# EAGLE library part ALLWINNER-A13 (library WakamelibGOOD)
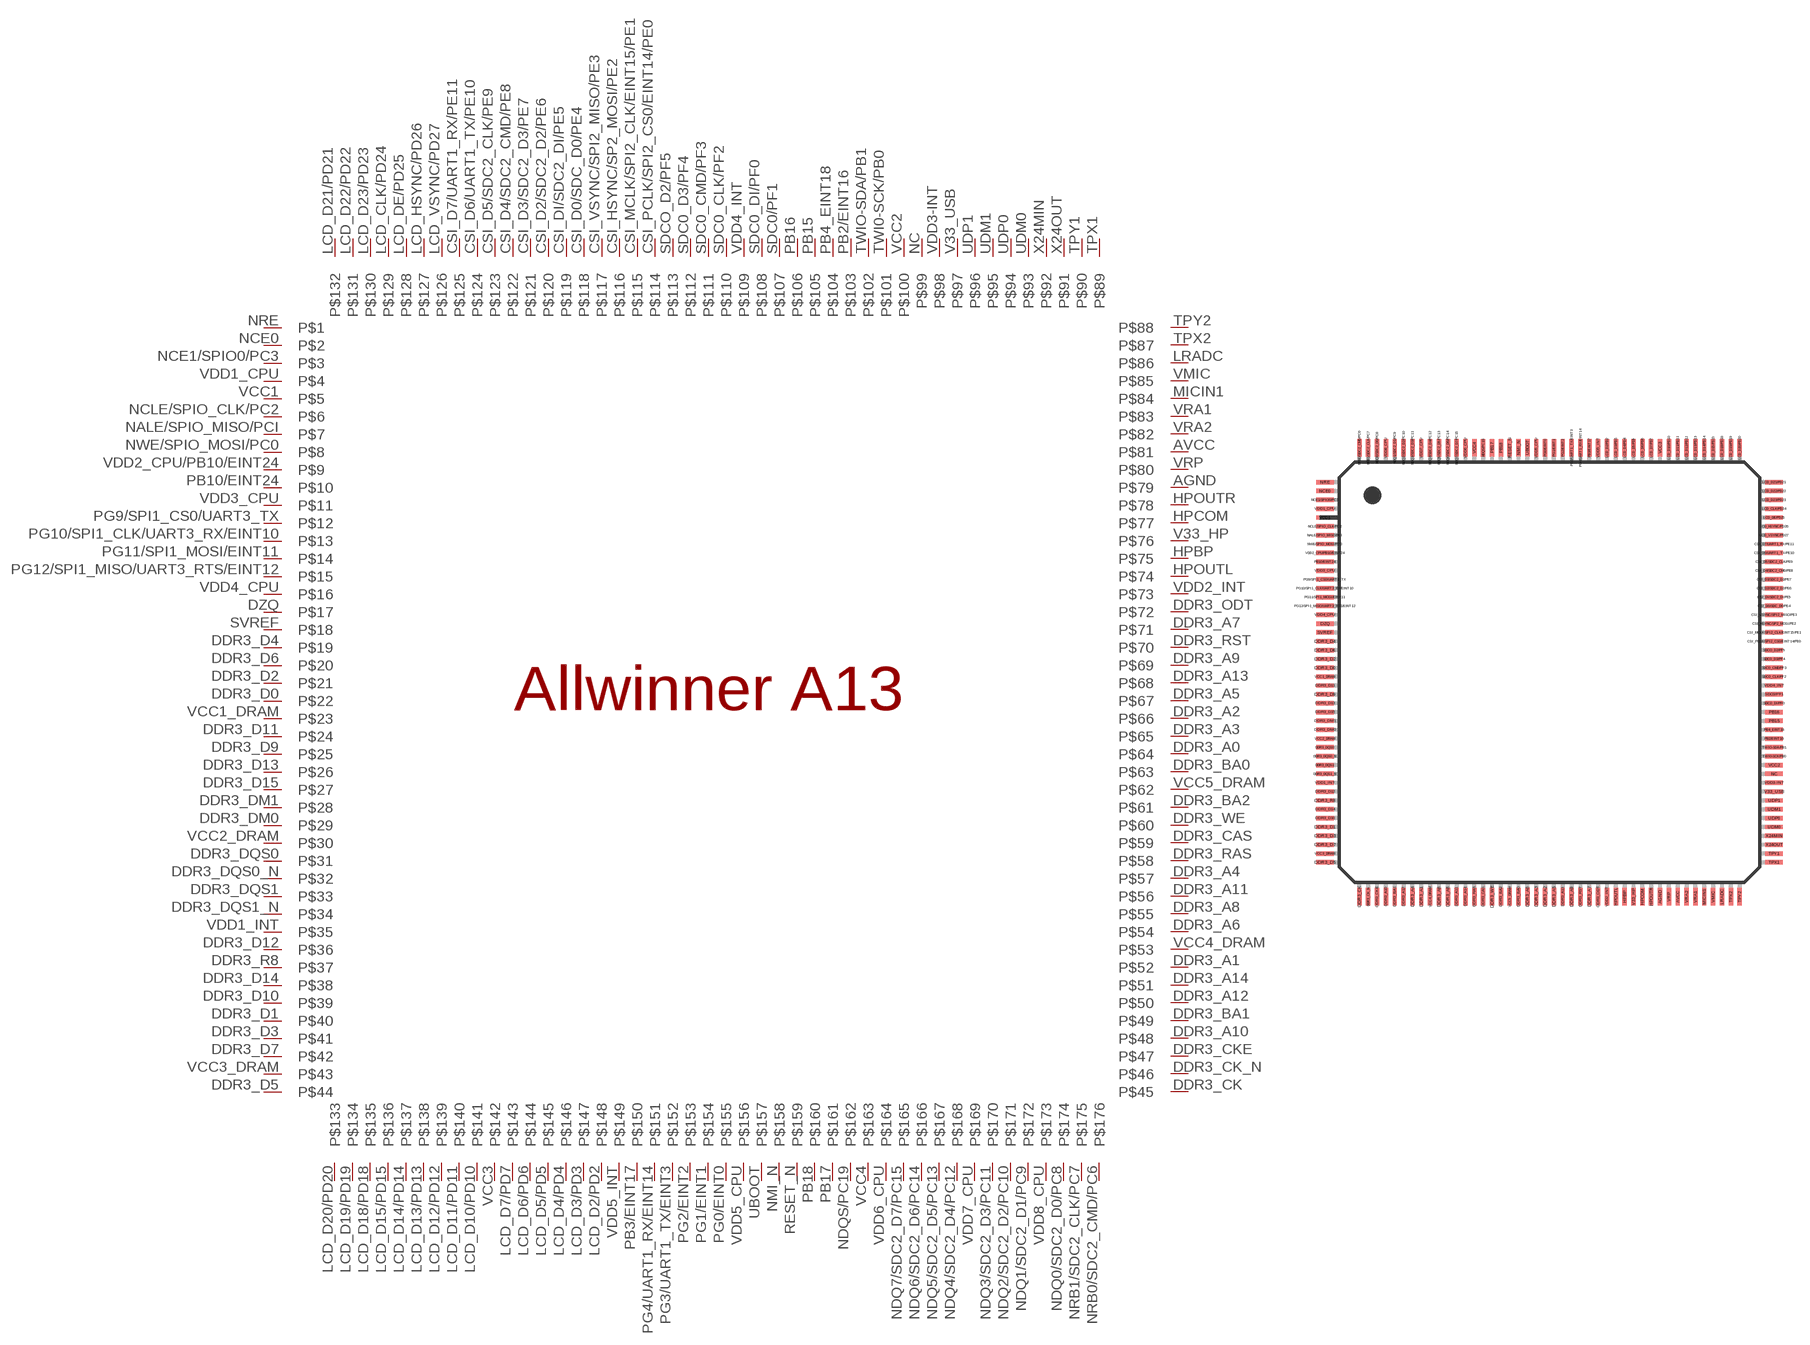
[diagram p2: symbol with the pads of PG-LQFP-176-2; footprint PG-LQFP-176-2]

Designator prefix -

## ALLWINNER-A13  [PG-LQFP-176-2]
AGND  P$79
AVCC  P$81
CSI_D0/SDC_D0/PE4  P$118
CSI_D2/SDC2_D2/PE6  P$120
CSI_D3/SDC2_D3/PE7  P$121
CSI_D4/SDC2_CMD/PE8  P$122
CSI_D5/SDC2_CLK/PE9  P$123
CSI_D6/UART1_TX/PE10  P$124
CSI_D7/UART1_RX/PE11  P$125
CSI_DI/SDC2_DI/PE5  P$119
CSI_HSYNC/SP2_MOSI/PE2  P$116
CSI_MCLK/SPI2_CLK/EINT15/PE1  P$115
CSI_PCLK/SPI2_CS0/EINT14/PE0  P$114
CSI_VSYNC/SPI2_MISO/PE3  P$117
DDR3_A0  P$64
DDR3_A1  P$52
DDR3_A2  P$66
DDR3_A3  P$65
DDR3_A4  P$57
DDR3_A5  P$67
DDR3_A6  P$54
DDR3_A7  P$71
DDR3_A8  P$55
DDR3_A9  P$69
DDR3_A10  P$48
DDR3_A11  P$56
DDR3_A12  P$50
DDR3_A13  P$68
DDR3_A14  P$51
DDR3_BA0  P$63
DDR3_BA1  P$49
DDR3_BA2  P$61
DDR3_CAS  P$59
DDR3_CK  P$45
DDR3_CK_N  P$46
DDR3_CKE  P$47
DDR3_D0  P$22
DDR3_D1  P$40
DDR3_D2  P$21
DDR3_D3  P$41
DDR3_D4  P$19
DDR3_D5  P$44
DDR3_D6  P$20
DDR3_D7  P$42
DDR3_D9  P$25
DDR3_D10  P$39
DDR3_D11  P$24
DDR3_D12  P$36
DDR3_D13  P$26
DDR3_D14  P$38
DDR3_D15  P$27
DDR3_DM0  P$29
DDR3_DM1  P$28
DDR3_DQS0  P$31
DDR3_DQS0_N  P$32
DDR3_DQS1  P$33
DDR3_DQS1_N  P$34
DDR3_ODT  P$72
DDR3_R8  P$37
DDR3_RAS  P$58
DDR3_RST  P$70
DDR3_WE  P$60
DZQ  P$17
HPBP  P$75
HPCOM  P$77
HPOUTL  P$74
HPOUTR  P$78
LCD_CLK/PD24  P$129
LCD_D2/PD2  P$148
LCD_D3/PD3  P$147
LCD_D4/PD4  P$146
LCD_D5/PD5  P$145
LCD_D6/PD6  P$144
LCD_D7/PD7  P$143
LCD_D10/PD10  P$141
LCD_D11/PD11  P$140
LCD_D12/PD12  P$139
LCD_D13/PD13  P$138
LCD_D14/PD14  P$137
LCD_D15/PD15  P$136
LCD_D18/PD18  P$135
LCD_D19/PD19  P$134
LCD_D20/PD20  P$133
LCD_D21/PD21  P$132
LCD_D22/PD22  P$131
LCD_D23/PD23  P$130
LCD_DE/PD25  P$128
LCD_HSYNC/PD26  P$127
LCD_VSYNC/PD27  P$126
LRADC  P$86
MICIN1  P$84
NALE/SPIO_MISO/PCI  P$7
NC  P$99
NCE0  P$2
NCE1/SPIO0/PC3  P$3
NCLE/SPIO_CLK/PC2  P$6
NDQ0/SDC2_D0/PC8  P$174
NDQ1/SDC2_D1/PC9  P$172
NDQ2/SDC2_D2/PC10  P$171
NDQ3/SDC2_D3/PC11  P$170
NDQ4/SDC2_D4/PC12  P$168
NDQ5/SDC2_D5/PC13  P$167
NDQ6/SDC2_D6/PC14  P$166
NDQ7/SDC2_D7/PC15  P$165
NDQS/PC19  P$162
NMI_N  P$158
NRB0/SDC2_CMD/PC6  P$176
NRB1/SDC2_CLK/PC7  P$175
NRE  P$1
NWE/SPIO_MOSI/PC0  P$8
PB2/EINT16  P$103
PB3/EINT17  P$150
PB4_EINT18  P$104
PB10/EINT24  P$10
PB15  P$105
PB16  P$106
PB17  P$161
PB18  P$160
PG0/EINT0  P$155
PG1/EINT1  P$154
PG2/EINT2  P$153
PG3/UART1_TX/EINT3  P$152
PG4/UART1_RX/EINT14  P$151
PG9/SPI1_CS0/UART3_TX  P$12
PG10/SPI1_CLK/UART3_RX/EINT10  P$13
PG11/SPI1_MOSI/EINT11  P$14
PG12/SPI1_MISO/UART3_RTS/EINT12  P$15
RESET_N  P$159
SDC0/PF1  P$107
SDC0_CLK/PF2  P$110
SDC0_CMD/PF3  P$111
SDC0_D3/PF4  P$112
SDC0_DI/PF0  P$108
SDCO_D2/PF5  P$113
SVREF  P$18
TPX1  P$89
TPX2  P$87
TPY1  P$90
TPY2  P$88
TWI0-SCK/PB0  P$101
TWIO-SDA/PB1  P$102
UBOOT  P$157
UDM0  P$93
UDM1  P$95
UDP0  P$94
UDP1  P$96
V33_HP  P$76
V33_USB  P$97
VCC1  P$5
VCC1_DRAM  P$23
VCC2  P$100
VCC2_DRAM  P$30
VCC3  P$142
VCC3_DRAM  P$43
VCC4  P$163
VCC4_DRAM  P$53
VCC5_DRAM  P$62
VDD1_CPU  P$4
VDD1_INT  P$35
VDD2_CPU/PB10/EINT24  P$9
VDD2_INT  P$73
VDD3-INT  P$98
VDD3_CPU  P$11
VDD4_CPU  P$16
VDD4_INT  P$109
VDD5_CPU  P$156
VDD5_INT  P$149
VDD6_CPU  P$164
VDD7_CPU  P$169
VDD8_CPU  P$173
VMIC  P$85
VRA1  P$83
VRA2  P$82
VRP  P$80
X24MIN  P$92
X24OUT  P$91

## Footprint PG-LQFP-176-2 (pad centres in mm)
Allwinner A13 system-on-chip Generated by Wakame project A13 datasheet
smd 0.25 x 1: AGND 6.25,-12.7; AVCC 7.25,-12.7; DDR3_A0 -1.25,-12.7; DDR3_A1 -7.25,-12.7; DDR3_A2 -0.25,-12.7; DDR3_A3 -0.75,-12.7; DDR3_A4 -7.75,-12.7; DDR3_A5 0.25,-12.7; DDR3_A6 -6.25,-12.7; DDR3_A7 2.25,-12.7; DDR3_A8 -5.75,-12.7; DDR3_A9 1.25,-12.7; DDR3_A10 -9.25,-12.7; DDR3_A11 -5.25,-12.7; DDR3_A12 -8.25,-12.7; DDR3_A13 0.75,-12.7; DDR3_A14 -4.75,-12.7; DDR3_BA0 -1.75,-12.7; DDR3_BA1 -8.75,-12.7; DDR3_BA2 -2.75,-12.7; DDR3_CAS -3.75,-12.7; DDR3_CK -10.75,-12.7; DDR3_CK_N -10.25,-12.7; DDR3_CKE -9.75,-12.7; DDR3_ODT 2.75,-12.7; DDR3_RAS -4.25,-12.7; DDR3_RST 1.75,-12.7; DDR3_WE -3.25,-12.7; HPBP 4.25,-12.7; HPCOM 5.25,-12.7; HPOUTL 3.75,-12.7; HPOUTR 5.75,-12.7; LCD_D2/PD2 3.25,12.7; LCD_D3/PD3 3.75,12.7; LCD_D4/PD4 4.25,12.7; LCD_D5/PD5 4.75,12.7; LCD_D6/PD6 5.25,12.7; LCD_D7/PD7 5.75,12.7; LCD_D10/PD10 6.75,12.7; LCD_D11/PD11 7.25,12.7; LCD_D12/PD12 7.75,12.7; LCD_D13/PD13 8.25,12.7; LCD_D14/PD14 8.75,12.7; LCD_D15/PD15 9.25,12.7; LCD_D18/PD18 9.75,12.7; LCD_D19/PD19 10.25,12.7; LCD_D20/PD20 10.75,12.7; LRADC 9.75,-12.7; MICIN1 8.75,-12.7; NDQ0/SDC2_D0/PC8 -9.75,12.7; NDQ1/SDC2_D1/PC9 -8.75,12.7; NDQ2/SDC2_D2/PC10 -8.25,12.7; NDQ3/SDC2_D3/PC11 -7.75,12.7; NDQ4/SDC2_D4/PC12 -6.75,12.7; NDQ5/SDC2_D5/PC13 -6.25,12.7; NDQ6/SDC2_D6/PC14 -5.75,12.7; NDQ7/SDC2_D7/PC15 -5.25,12.7; NDQS/PC19 -3.75,12.7; NMI_N -1.75,12.7; NRB0/SDC2_CMD/PC6 -10.75,12.7; NRB1/SDC2_CLK/PC7 -10.25,12.7; PB3/EINT17 2.25,12.7; PB17 -3.25,12.7; PB18 -2.75,12.7; PG0/EINT0 -0.25,12.7; PG1/EINT1 0.25,12.7; PG2/EINT2 0.75,12.7; PG3/UART1_TX/EINT3 1.25,12.7; PG4/UART1_RX/EINT14 1.75,12.7; RESET_N -2.25,12.7; TPX2 10.25,-12.7; TPY2 10.75,-12.7; UBOOT -1.25,12.7; V33_HP 4.75,-12.7; VCC3 6.25,12.7; VCC4 -4.25,12.7; VCC4_DRAM -6.75,-12.7; VCC5_DRAM -2.25,-12.7; VDD2_INT 3.25,-12.7; VDD5_CPU -0.75,12.7; VDD5_INT 2.75,12.7; VDD6_CPU -4.75,12.7; VDD7_CPU -7.25,12.7; VDD8_CPU -9.25,12.7; VMIC 9.25,-12.7; VRA1 8.25,-12.7; VRA2 7.75,-12.7; VRP 6.75,-12.7
smd 1 x 0.25: CSI_D0/SDC_D0/PE4 12.7,3.75; CSI_D2/SDC2_D2/PE6 12.7,4.75; CSI_D3/SDC2_D3/PE7 12.7,5.25; CSI_D4/SDC2_CMD/PE8 12.7,5.75; CSI_D5/SDC2_CLK/PE9 12.7,6.25; CSI_D6/UART1_TX/PE10 12.7,6.75; CSI_D7/UART1_RX/PE11 12.7,7.25; CSI_DI/SDC2_DI/PE5 12.7,4.25; CSI_HSYNC/SP2_MOSI/PE2 12.7,2.75; CSI_MCLK/SPI2_CLK/EINT15/PE1 12.7,2.25; CSI_PCLK/SPI2_CS0/EINT14/PE0 12.7,1.75; CSI_VSYNC/SPI2_MISO/PE3 12.7,3.25; DDR3_D0 -12.7,0.25; DDR3_D1 -12.7,-8.75; DDR3_D2 -12.7,0.75; DDR3_D3 -12.7,-9.25; DDR3_D4 -12.7,1.75; DDR3_D5 -12.7,-10.75; DDR3_D6 -12.7,1.25; DDR3_D7 -12.7,-9.75; DDR3_D9 -12.7,-1.25; DDR3_D10 -12.7,-8.25; DDR3_D11 -12.7,-0.75; DDR3_D12 -12.7,-6.75; DDR3_D13 -12.7,-1.75; DDR3_D14 -12.7,-7.75; DDR3_D15 -12.7,-2.25; DDR3_DM0 -12.7,-3.25; DDR3_DM1 -12.7,-2.75; DDR3_DQS0 -12.7,-4.25; DDR3_DQS0_N -12.7,-4.75; DDR3_DQS1 -12.7,-5.25; DDR3_DQS1_N -12.7,-5.75; DDR3_R8 -12.7,-7.25; DZQ -12.7,2.75; LCD_CLK/PD24 12.7,9.25; LCD_D21/PD21 12.7,10.75; LCD_D22/PD22 12.7,10.25; LCD_D23/PD23 12.7,9.75; LCD_DE/PD25 12.7,8.75; LCD_HSYNC/PD26 12.7,8.25; LCD_VSYNC/PD27 12.7,7.75; NALE/SPIO_MISO/PCI -12.7,7.75; NC 12.7,-5.75; NCE0 -12.7,10.25; NCE1/SPIO0/PC3 -12.7,9.75; NCLE/SPIO_CLK/PC2 -12.7,8.25; NRE -12.7,10.75; NWE/SPIO_MOSI/PC0 -12.7,7.25; PB2/EINT16 12.7,-3.75; PB4_EINT18 12.7,-3.25; PB10/EINT24 -12.7,6.25; PB15 12.7,-2.75; PB16 12.7,-2.25; PG9/SPI1_CS0/UART3_TX -12.7,5.25; PG10/SPI1_CLK/UART3_RX/EINT10 -12.7,4.75; PG11/SPI1_MOSI/EINT11 -12.7,4.25; PG12/SPI1_MISO/UART3_RTS/EINT12 -12.7,3.75; SDC0/PF1 12.7,-1.25; SDC0_CLK/PF2 12.7,-0.25; SDC0_CMD/PF3 12.7,0.25; SDC0_D3/PF4 12.7,0.75; SDC0_DI/PF0 12.7,-1.75; SDCO_D2/PF5 12.7,1.25; SVREF -12.7,2.25; TPX1 12.7,-10.75; TPY1 12.7,-10.25; TWI0-SCK/PB0 12.7,-4.75; TWIO-SDA/PB1 12.7,-4.25; UDM0 12.7,-8.75; UDM1 12.7,-7.75; UDP0 12.7,-8.25; UDP1 12.7,-7.25; V33_USB 12.7,-6.75; VCC1 -12.7,8.75; VCC1_DRAM -12.7,-0.25; VCC2 12.7,-5.25; VCC2_DRAM -12.7,-3.75; VCC3_DRAM -12.7,-10.25; VDD1_CPU -12.7,9.25; VDD1_INT -12.7,-6.25; VDD2_CPU/PB10/EINT24 -12.7,6.75; VDD3-INT 12.7,-6.25; VDD3_CPU -12.7,5.75; VDD4_CPU -12.7,3.25; VDD4_INT 12.7,-0.75; X24MIN 12.7,-9.25; X24OUT 12.7,-9.75